# Altium footprint library eecs5x.PcbLib: 161 footprints (part 9 of 11)
Each footprint in its own frame and in the unit in brackets; x right, y up, seen from the top. Pads: shape width x height; smd on the part's side, far side on the other; paste and mask are expansions set on the pad; w line width, h text height; cw(c..) or ccw(c..) is an arc to the next point about the centre after c.
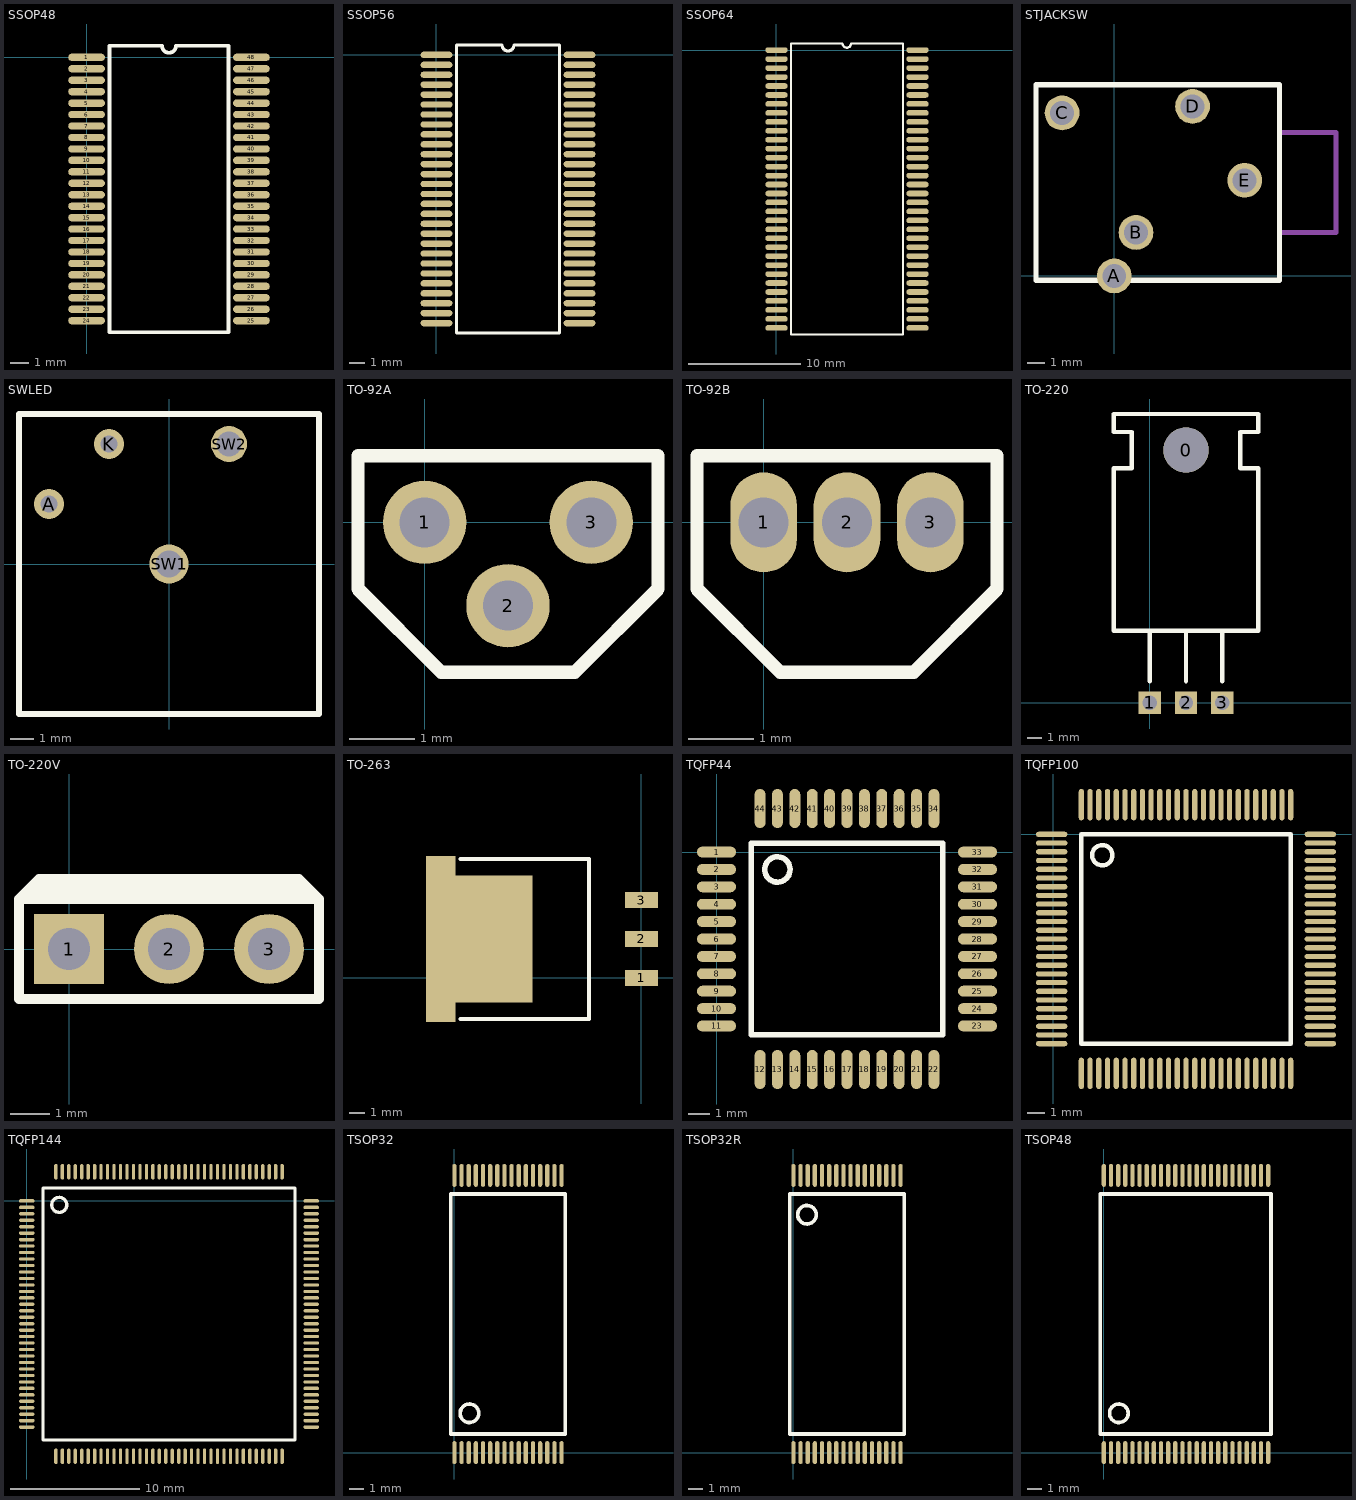
[diagram p8: the footprints below, top view; thin cyan lines are the x and y axes]

## SSOP48 [mil]
pads (48):
  oval 80x16 smd: 1(0,0) 2(0,-25) 3(0,-50) 4(0,-75) 5(0,-100) 6(0,-125) 7(0,-150) 8(0,-175) 9(0,-200) 10(0,-225) 11(0,-250) 12(0,-275) 13(0,-300) 14(0,-325) 15(0,-350) 16(0,-375) 17(0,-400) 18(0,-425) 19(0,-450) 20(0,-475) 21(0,-500) 22(0,-525) 23(0,-550) 24(0,-575) 25(360,-575) 26(360,-550) 27(360,-525) 28(360,-500) 29(360,-475) 30(360,-450) 31(360,-425) 32(360,-400) 33(360,-375) 34(360,-350) 35(360,-325) 36(360,-300) 37(360,-275) 38(360,-250) 39(360,-225) 40(360,-200) 41(360,-175) 42(360,-150) 43(360,-125) 44(360,-100) 45(360,-75) 46(360,-50) 47(360,-25) 48(360,0)
Top Overlay:
  lines w8: 50,-600 50,25 165,25 ccw(c180,25) 195,25 310,25 310,-600 50,-600

## SSOP56 [mil]
pads (56):
  oval 80x16 smd: 1(0,0) 2(0,-25) 3(0,-50) 4(0,-75) 5(0,-100) 6(0,-125) 7(0,-150) 8(0,-175) 9(0,-200) 10(0,-225) 11(0,-250) 12(0,-275) 13(0,-300) 14(0,-325) 15(0,-350) 16(0,-375) 17(0,-400) 18(0,-425) 19(0,-450) 20(0,-475) 21(0,-500) 22(0,-525) 23(0,-550) 24(0,-575) 25(0,-600) 26(0,-625) 27(0,-650) 28(0,-675) 29(360,-675) 30(360,-650) 31(360,-625) 32(360,-600) 33(360,-575) 34(360,-550) 35(360,-525) 36(360,-500) 37(360,-475) 38(360,-450) 39(360,-425) 40(360,-400) 41(360,-375) 42(360,-350) 43(360,-325) 44(360,-300) 45(360,-275) 46(360,-250) 47(360,-225) 48(360,-200) 49(360,-175) 50(360,-150) 51(360,-125) 52(360,-100) 53(360,-75) 54(360,-50) 55(360,-25) 56(360,0)
Top Overlay:
  lines w8: 50,-700 50,25 165,25 ccw(c180,25) 195,25 310,25 310,-700 50,-700

## SSOP64 [mm]
pads (64):
  oval 2x0.5 smd: 1(0,0) 2(0,-0.8) 3(0,-1.6) 4(0,-2.4) 5(0,-3.2) 6(0,-4) 7(0,-4.8) 8(0,-5.6) 9(0,-6.4) 10(0,-7.2) 11(0,-8) 12(0,-8.8) 13(0,-9.6) 14(0,-10.4) 15(0,-11.2) 16(0,-12) 17(0,-12.8) 18(0,-13.6) 19(0,-14.4) 20(0,-15.2) 21(0,-16) 22(0,-16.8) 23(0,-17.6) 24(0,-18.4) 25(0,-19.2) 26(0,-20) 27(0,-20.8) 28(0,-21.6) 29(0,-22.4) 30(0,-23.2) 31(0,-24) 32(0,-24.8) 33(12.6,-24.8) 34(12.6,-24) 35(12.6,-23.2) 36(12.6,-22.4) 37(12.6,-21.6) 38(12.6,-20.8) 39(12.6,-20) 40(12.6,-19.2) 41(12.6,-18.4) 42(12.6,-17.6) 43(12.6,-16.8) 44(12.6,-16) 45(12.6,-15.2) 46(12.6,-14.4) 47(12.6,-13.6) 48(12.6,-12.8) 49(12.6,-12) 50(12.6,-11.2) 51(12.6,-10.4) 52(12.6,-9.6) 53(12.6,-8.8) 54(12.6,-8) 55(12.6,-7.2) 56(12.6,-6.4) 57(12.6,-5.6) 58(12.6,-4.8) 59(12.6,-4) 60(12.6,-3.2) 61(12.6,-2.4) 62(12.6,-1.6) 63(12.6,-0.8) 64(12.6,0)
Top Overlay:
  lines w0.203: 1.3,-25.4 1.3,0.6 5.9,0.6 ccw(c6.281,0.6) 6.662,0.6 11.3,0.6 11.3,-25.4 1.3,-25.4

## STJACKSW [mil]
pads (5):
  round 80 hole 55: A(0,0) B(50,100) C(-120,375) D(180,390) E(300,220)
Top Overlay:
  lines w12: -180,-10 -180,440 380,440 380,-10 -180,-10
Mechanical 1:
  lines w12: 380,100 510,100 510,330 380,330

## SWLED [mil]
pads (4):
  round 50 hole 28: A(-200,100) K(-100,200)
  round 65 hole 45: SW1(0,0)
  round 60 hole 42: SW2(100,200)
Top Overlay:
  lines w10: -250,-250 -250,250 250,250 250,-250 -250,-250

## TO-92A [mil]
pads (3):
  round 50 hole 30: 1(0,0) 2(50,-50) 3(100,0)
Top Overlay:
  lines w8: -40,-40 10,-90 90,-90 140,-40 140,40 -40,40 -40,-40

## TO-92B [mil]
pads (3):
  oval 40x60 hole 30: 1(0,0) 2(50,0) 3(100,0)
Top Overlay:
  lines w8: -40,-40 10,-90 90,-90 140,-40 140,40 -40,40 -40,-40

## TO-220 [mil]
pads (4):
  round 125 hole 125: 0(100,700)
  rect 62x62 hole 40: 1(0,0) 2(100,0) 3(200,0)
Top Overlay:
  lines w12: 0,60 0,200 ; 100,60 100,200 ; 200,60 200,200 ; -100,200 -100,650 -50,650 -50,750 -100,750 -100,800 300,800 300,750 250,750 250,650 300,650 300,200 -100,200

## TO-220V [mil]
pads (3):
  rect 70x70 hole 42: 1(0,0)
  round 70 hole 42: 2(100,0) 3(200,0)
Top Overlay:
  lines w10: -50,50 -30,70 230,70 250,50 ; -50,50 -50,-50 250,-50 250,50 ; -50,50 250,50
  lines w15: -35,60 235,60

## TO-263 [mil]
pads (5):
  rect 85x42 smd: 1(0,0) 2(0,100) 3(0,200)
  rect 75x425 smd: ""(-515,100)
  rect 200x325 smd: ""(-380,100)
Top Overlay:
  lines w10: -465,-105 -135,-105 -135,305 -465,305

## TQFP44 [mm]
pads (44):
  oval 1.8x0.5 smd: 1(0,0) 2(0,-0.8) 3(0,-1.6) 4(0,-2.4) 5(0,-3.2) 6(0,-4) 7(0,-4.8) 8(0,-5.6) 9(0,-6.4) 10(0,-7.2) 11(0,-8) 23(12,-8) 24(12,-7.2) 25(12,-6.4) 26(12,-5.6) 27(12,-4.8) 28(12,-4) 29(12,-3.2) 30(12,-2.4) 31(12,-1.6) 32(12,-0.8) 33(12,0)
  oval 0.5x1.8 smd: 12(2,-10) 13(2.8,-10) 14(3.6,-10) 15(4.4,-10) 16(5.2,-10) 17(6,-10) 18(6.8,-10) 19(7.6,-10) 20(8.4,-10) 21(9.2,-10) 22(10,-10) 34(10,2) 35(9.2,2) 36(8.4,2) 37(7.6,2) 38(6.8,2) 39(6,2) 40(5.2,2) 41(4.4,2) 42(3.6,2) 43(2.8,2) 44(2,2)
Top Overlay:
  circle w0.254: c2.8,-0.8 r0.583
  lines w0.254: 1.6,-8.4 1.6,0.4 10.4,0.4 10.4,-8.4 1.6,-8.4

## TQFP100 [mm]
pads (100):
  oval 1.8x0.3 smd: 1(-0.1,0) 2(-0.1,-0.5) 3(-0.1,-1) 4(-0.1,-1.5) 5(-0.1,-2) 6(-0.1,-2.5) 7(-0.1,-3) 8(-0.1,-3.5) 9(-0.1,-4) 10(-0.1,-4.5) 11(-0.1,-5) 12(-0.1,-5.5) 13(-0.1,-6) 14(-0.1,-6.5) 15(-0.1,-7) 16(-0.1,-7.5) 17(-0.1,-8) 18(-0.1,-8.5) 19(-0.1,-9) 20(-0.1,-9.5) 21(-0.1,-10) 22(-0.1,-10.5) 23(-0.1,-11) 24(-0.1,-11.5) 25(-0.1,-12) 51(15.3,-12) 52(15.3,-11.5) 53(15.3,-11) 54(15.3,-10.5) 55(15.3,-10) 56(15.3,-9.5) 57(15.3,-9) 58(15.3,-8.5) 59(15.3,-8) 60(15.3,-7.5) 61(15.3,-7) 62(15.3,-6.5) 63(15.3,-6) 64(15.3,-5.5) 65(15.3,-5) 66(15.3,-4.5) 67(15.3,-4) 68(15.3,-3.5) 69(15.3,-3) 70(15.3,-2.5) 71(15.3,-2) 72(15.3,-1.5) 73(15.3,-1) 74(15.3,-0.5) 75(15.3,0)
  oval 0.3x1.8 smd: 26(1.6,-13.7) 27(2.1,-13.7) 28(2.6,-13.7) 29(3.1,-13.7) 30(3.6,-13.7) 31(4.1,-13.7) 32(4.6,-13.7) 33(5.1,-13.7) 34(5.6,-13.7) 35(6.1,-13.7) 36(6.6,-13.7) 37(7.1,-13.7) 38(7.6,-13.7) 39(8.1,-13.7) 40(8.6,-13.7) 41(9.1,-13.7) 42(9.6,-13.7) 43(10.1,-13.7) 44(10.6,-13.7) 45(11.1,-13.7) 46(11.6,-13.7) 47(12.1,-13.7) 48(12.6,-13.7) 49(13.1,-13.7) 50(13.6,-13.7) 76(13.6,1.7) 77(13.1,1.7) 78(12.6,1.7) 79(12.1,1.7) 80(11.6,1.7) 81(11.1,1.7) 82(10.6,1.7) 83(10.1,1.7) 84(9.6,1.7) 85(9.1,1.7) 86(8.6,1.7) 87(8.1,1.7) 88(7.6,1.7) 89(7.1,1.7) 90(6.6,1.7) 91(6.1,1.7) 92(5.6,1.7) 93(5.1,1.7) 94(4.6,1.7) 95(4.1,1.7) 96(3.6,1.7) 97(3.1,1.7) 98(2.6,1.7) 99(2.1,1.7) 100(1.6,1.7)
Top Overlay:
  circle w0.254: c2.8,-1.197 r0.583
  lines w0.254: 1.6,-12 1.6,0 13.6,0 13.6,-12 1.6,-12

## TQFP144 [mm]
pads (144):
  oval 1.2x0.25 smd: 1(0,0) 2(0,-0.5) 3(0,-1) 4(0,-1.5) 5(0,-2) 6(0,-2.5) 7(0,-3) 8(0,-3.5) 9(0,-4) 10(0,-4.5) 11(0,-5) 12(0,-5.5) 13(0,-6) 14(0,-6.5) 15(0,-7) 16(0,-7.5) 17(0,-8) 18(0,-8.5) 19(0,-9) 20(0,-9.5) 21(0,-10) 22(0,-10.5) 23(0,-11) 24(0,-11.5) 25(0,-12) 26(0,-12.5) 27(0,-13) 28(0,-13.5) 29(0,-14) 30(0,-14.5) 31(0,-15) 32(0,-15.5) 33(0,-16) 34(0,-16.5) 35(0,-17) 36(0,-17.5) 73(22,-17.5) 74(22,-17) 75(22,-16.5) 76(22,-16) 77(22,-15.5) 78(22,-15) 79(22,-14.5) 80(22,-14) 81(22,-13.5) 82(22,-13) 83(22,-12.5) 84(22,-12) 85(22,-11.5) 86(22,-11) 87(22,-10.5) 88(22,-10) 89(22,-9.5) 90(22,-9) 91(22,-8.5) 92(22,-8) 93(22,-7.5) 94(22,-7) 95(22,-6.5) 96(22,-6) 97(22,-5.5) 98(22,-5) 99(22,-4.5) 100(22,-4) 101(22,-3.5) 102(22,-3) 103(22,-2.5) 104(22,-2) 105(22,-1.5) 106(22,-1) 107(22,-0.5) 108(22,0)
  oval 0.25x1.2 smd: 37(2.25,-19.75) 38(2.75,-19.75) 39(3.25,-19.75) 40(3.75,-19.75) 41(4.25,-19.75) 42(4.75,-19.75) 43(5.25,-19.75) 44(5.75,-19.75) 45(6.25,-19.75) 46(6.75,-19.75) 47(7.25,-19.75) 48(7.75,-19.75) 49(8.25,-19.75) 50(8.75,-19.75) 51(9.25,-19.75) 52(9.75,-19.75) 53(10.25,-19.75) 54(10.75,-19.75) 55(11.25,-19.75) 56(11.75,-19.75) 57(12.25,-19.75) 58(12.75,-19.75) 59(13.25,-19.75) 60(13.75,-19.75) 61(14.25,-19.75) 62(14.75,-19.75) 63(15.25,-19.75) 64(15.75,-19.75) 65(16.25,-19.75) 66(16.75,-19.75) 67(17.25,-19.75) 68(17.75,-19.75) 69(18.25,-19.75) 70(18.75,-19.75) 71(19.25,-19.75) 72(19.75,-19.75) 109(19.75,2.25) 110(19.25,2.25) 111(18.75,2.25) 112(18.25,2.25) 113(17.75,2.25) 114(17.25,2.25) 115(16.75,2.25) 116(16.25,2.25) 117(15.75,2.25) 118(15.25,2.25) 119(14.75,2.25) 120(14.25,2.25) 121(13.75,2.25) 122(13.25,2.25) 123(12.75,2.25) 124(12.25,2.25) 125(11.75,2.25) 126(11.25,2.25) 127(10.75,2.25) 128(10.25,2.25) 129(9.75,2.25) 130(9.25,2.25) 131(8.75,2.25) 132(8.25,2.25) 133(7.75,2.25) 134(7.25,2.25) 135(6.75,2.25) 136(6.25,2.25) 137(5.75,2.25) 138(5.25,2.25) 139(4.75,2.25) 140(4.25,2.25) 141(3.75,2.25) 142(3.25,2.25) 143(2.75,2.25) 144(2.25,2.25)
Top Overlay:
  circle w0.254: c2.51,-0.312 r0.583
  lines w0.254: 1.25,-18.5 1.25,1 20.75,1 20.75,-18.5 1.25,-18.5

## TSOP32 [mm]
pads (32):
  oval 0.3x1.6 smd: 1(0,0) 2(0.5,0) 3(1,0) 4(1.5,0) 5(2,0) 6(2.5,0) 7(3,0) 8(3.5,0) 9(4,0) 10(4.5,0) 11(5,0) 12(5.5,0) 13(6,0) 14(6.5,0) 15(7,0) 16(7.5,0) 17(7.5,19.4) 18(7,19.4) 19(6.5,19.4) 20(6,19.4) 21(5.5,19.4) 22(5,19.4) 23(4.5,19.4) 24(4,19.4) 25(3.5,19.4) 26(3,19.4) 27(2.5,19.4) 28(2,19.4) 29(1.5,19.4) 30(1,19.4) 31(0.5,19.4) 32(0,19.4)
Top Overlay:
  circle w0.254: c1.05,2.75 r0.65
  lines w0.254: -0.25,1.3 -0.25,18.1 7.75,18.1 7.75,1.3 -0.25,1.3

## TSOP32R [mm]
pads (32):
  oval 0.3x1.6 smd: 1(0,19.4) 2(0.5,19.4) 3(1,19.4) 4(1.5,19.4) 5(2,19.4) 6(2.5,19.4) 7(3,19.4) 8(3.5,19.4) 9(4,19.4) 10(4.5,19.4) 11(5,19.4) 12(5.5,19.4) 13(6,19.4) 14(6.5,19.4) 15(7,19.4) 16(7.5,19.4) 17(7.5,0) 18(7,0) 19(6.5,0) 20(6,0) 21(5.5,0) 22(5,0) 23(4.5,0) 24(4,0) 25(3.5,0) 26(3,0) 27(2.5,0) 28(2,0) 29(1.5,0) 30(1,0) 31(0.5,0) 32(0,0)
Top Overlay:
  circle w0.254: c0.95,16.65 r0.65
  lines w0.254: -0.25,1.3 -0.25,18.1 7.75,18.1 7.75,1.3 -0.25,1.3

## TSOP48 [mm]
pads (48):
  oval 0.3x1.6 smd: 1(0,0) 2(0.5,0) 3(1,0) 4(1.5,0) 5(2,0) 6(2.5,0) 7(3,0) 8(3.5,0) 9(4,0) 10(4.5,0) 11(5,0) 12(5.5,0) 13(6,0) 14(6.5,0) 15(7,0) 16(7.5,0) 17(8,0) 18(8.5,0) 19(9,0) 20(9.5,0) 21(10,0) 22(10.5,0) 23(11,0) 24(11.5,0) 25(11.5,19.4) 26(11,19.4) 27(10.5,19.4) 28(10,19.4) 29(9.5,19.4) 30(9,19.4) 31(8.5,19.4) 32(8,19.4) 33(7.5,19.4) 34(7,19.4) 35(6.5,19.4) 36(6,19.4) 37(5.5,19.4) 38(5,19.4) 39(4.5,19.4) 40(4,19.4) 41(3.5,19.4) 42(3,19.4) 43(2.5,19.4) 44(2,19.4) 45(1.5,19.4) 46(1,19.4) 47(0.5,19.4) 48(0,19.4)
Top Overlay:
  circle w0.254: c1.05,2.75 r0.65
  lines w0.254: -0.25,1.3 -0.25,18.1 11.7,18.1 11.7,1.3 -0.25,1.3